# EAGLE library part MPU-9150 (library chips_old)
GYRO/ACCELEROMETER 9-AXIS 24LGA
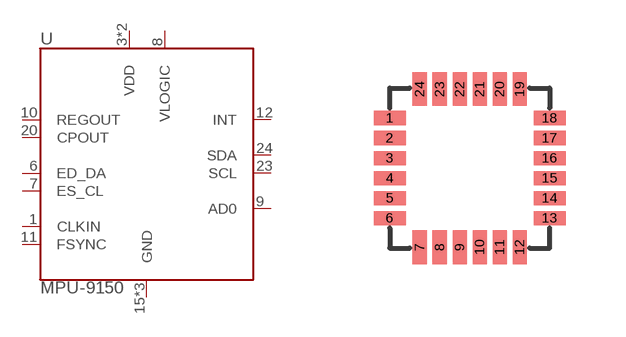
[diagram p20: symbol with the pads of LGA-24/4MM; footprint LGA-24/4MM]

Designator prefix U

## MPU-9150 (DIGIKEY: 1428-1009-1-ND)  [LGA-24/4MM]
1  CLKIN
3  VDD
6  ED_DA
7  ES_CL
8  VLOGIC
9  AD0
10  REGOUT
11  FSYNC
12  INT
13  VDD
15  GND
17  GND
18  GND
20  CPOUT
23  SCL
24  SDA

## Footprint LGA-24/4MM (pad centres in mm)
smd 0.8 x 0.35: 1 -2,1.25; 2 -2,0.75; 3 -2,0.25; 4 -2,-0.25; 5 -2,-0.75; 6 -2,-1.25; 13 2,-1.25; 14 2,-0.75; 15 2,-0.25; 16 2,0.25; 17 2,0.75; 18 2,1.25
smd 0.35 x 0.85: 7 -1.25,-1.975; 8 -0.75,-1.975; 9 -0.25,-1.975; 10 0.25,-1.975; 11 0.75,-1.975; 12 1.25,-1.975; 19 1.25,1.975; 20 0.75,1.975; 21 0.25,1.975; 22 -0.25,1.975; 23 -0.75,1.975; 24 -1.25,1.975